# EAGLE library part TPS54231D (library TPS54231D)
Buy Part <https://snapeda.com/parts/TPS54231D/Texas%20Instruments/view-part/?ref=eda>
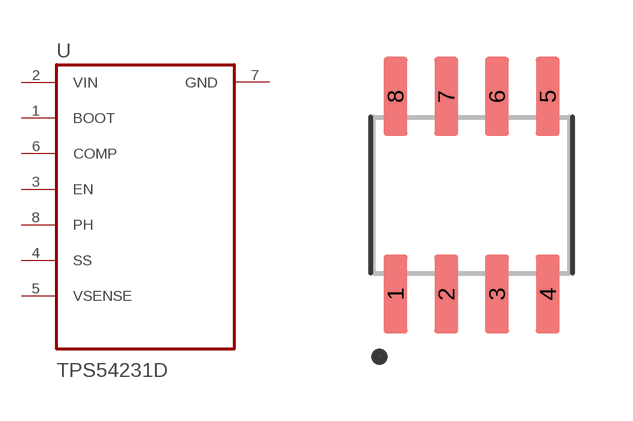
[diagram p0: symbol with the pads of SOIC127P599X175-8N; footprint SOIC127P599X175-8N]

Designator prefix U

## TPS54231D (AVAILABILITY: Good; DESCRIPTION: 3.5 to 28V Input, 2A, 570kHz Step-Down Converter with Eco-mode&trade; 8-SOIC -40 to 150; DIGIKEY-PURCHASE-URL: https://snapeda.com/shop?store=DigiKey&id=456068; MF: Texas Instruments; MOUSER-PURCHASE-URL: https://snapeda.com/shop?store=Mouser&id=456068; MP: TPS54231D; PACKAGE: SOIC-8 Texas Instruments; PRICE: None; TEXAS_INSTRUMENTS-PURCHASE-URL: https://snapeda.com/shop?store=Texas+Instruments&id=456068)  [SOIC127P599X175-8N]
1  BOOT
2  VIN  in
3  EN
4  SS
5  VSENSE
6  COMP
7  GND  pwr
8  PH

## Footprint SOIC127P599X175-8N (pad centres in mm)
smd 0.6 x 1.97: 1 -1.905,-2.47; 2 -0.635,-2.47; 3 0.635,-2.47; 4 1.905,-2.47; 5 1.905,2.47; 6 0.635,2.47; 7 -0.635,2.47; 8 -1.905,2.47